# Altium schematic symbol library Cap-0603.SchLib: 1 symbol
Pins are listed as number, name and electrical type; pins without a type are passive.

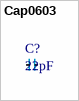
[diagram p0: symbol Cap0603]

## Cap0603
designator C?, comment 22pF
footprint Cap-0603
pins: 1, 2